# EAGLE library part PCI-E-X1 (library pci-e_x1)
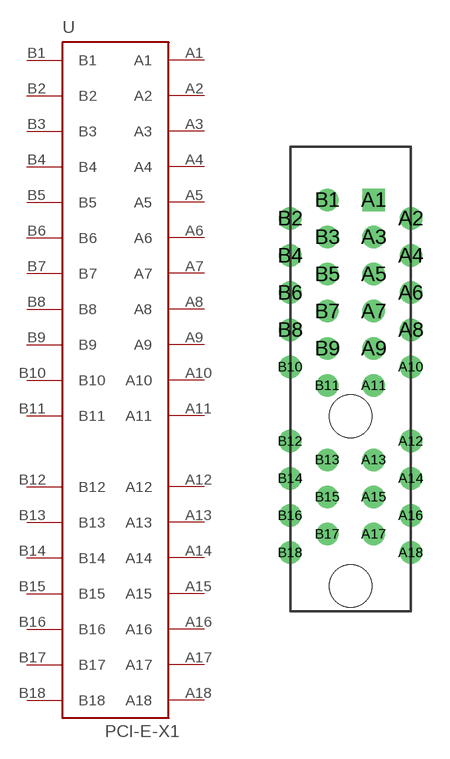
[diagram p0: symbol with the pads of PCI-E-X1; footprint PCI-E-X1]

Designator prefix -

## PCI-E-X1  [PCI-E-X1]
A1  A1
A2  A2
A3  A3
A4  A4
A5  A5
A6  A6
A7  A7
A8  A8
A9  A9
A10  A10
A11  A11
A12  A12
A13  A13
A14  A14
A15  A15
A16  A16
A17  A17
A18  A18
B1  B1
B2  B2
B3  B3
B4  B4
B5  B5
B6  B6
B7  B7
B8  B8
B9  B9
B10  B10
B11  B11
B12  B12
B13  B13
B14  B14
B15  B15
B16  B16
B17  B17
B18  B18

## Footprint PCI-E-X1 (pad centres in mm)
drill 0.7 square: A1 1.25,11.65
drill 0.7: A2 3.25,10.65; A3 1.25,9.65; A4 3.25,8.65; A5 1.25,7.65; A6 3.25,6.65; A7 1.25,5.65; A8 3.25,4.65; A9 1.25,3.65; A10 3.25,2.65; A11 1.25,1.65; A12 3.25,-1.35; A13 1.25,-2.35; A14 3.25,-3.35; A15 1.25,-4.35; A16 3.25,-5.35; A17 1.25,-6.35; A18 3.25,-7.35; B1 -1.25,11.65; B2 -3.25,10.65; B3 -1.25,9.65; B4 -3.25,8.65; B5 -1.25,7.65; B6 -3.25,6.65; B7 -1.25,5.65; B8 -3.25,4.65; B9 -1.25,3.65; B10 -3.25,2.65; B11 -1.25,1.65; B12 -3.25,-1.35; B13 -1.25,-2.35; B14 -3.25,-3.35; B15 -1.25,-4.35; B16 -3.25,-5.35; B17 -1.25,-6.35; B18 -3.25,-7.35
hole 2.3 at 0,0
hole 2.3 at 0,-9.15